# Altium footprint library SMD_3215_2Pin_Crystal_Oscillator.PcbLib: 1 footprints
Each footprint in its own frame and in the unit in brackets; x right, y up, seen from the top. Pads: shape width x height; smd on the part's side, far side on the other; paste and mask are expansions set on the pad; w line width, h text height; cw(c..) or ccw(c..) is an arc to the next point about the centre after c.
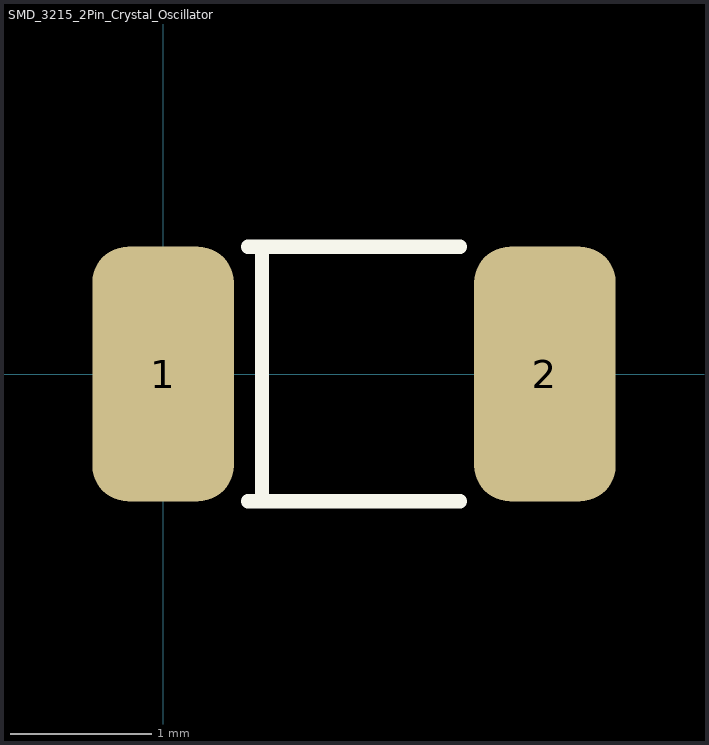
[diagram p0: the footprint, top view; thin cyan lines are the x and y axes]

## SMD_3215_2Pin_Crystal_Oscillator [mm]
pads (2):
  rrect50% 1x1.8 smd: 1(0,0) 2(2.7,0)
Top Overlay:
  lines w0.1: 0.6,-0.9 2.1,-0.9 ; 0.6,0.9 2.1,0.9 ; 0.7,-0.9 0.7,0.9
3D body "Crystal_3215.step": height 0.8, standoff 0, extent -0.25,-0.75 2.95,0.75